# EAGLE library part MCP6H02 (library omcOpAmp)
MCP6H02 - 1.2 MHz, 16V Op Amps - Microchip Input Offset Voltage: ±0.7 mV (typical) Quiescent Current: 135 μA (typical) Common Mode Rejection Ratio: 100 dB (typical) Power Supply Rejection Ratio: 102 dB (typical) Rail-to-Rail Output Supply Voltage Range:: Single-Supply Operation: 3.5V to 16V Dual-Supply Operation: ±1.75V to ±8V Gain Bandwidth Product: 1.2 MHz (typical) Slew Rate: 0.8V/μs (typical) Unity Gain Stable Extended Temperature Range: -40°C to +125°C No Phase Reversal Datasheet: Microchip <http://ww1.microchip.com/downloads/en/devicedoc/22243d.pdf> Reichelt <https://cdn-reichelt.de/documents/datenblatt/A200/MCP6H01-2-4.pdf>
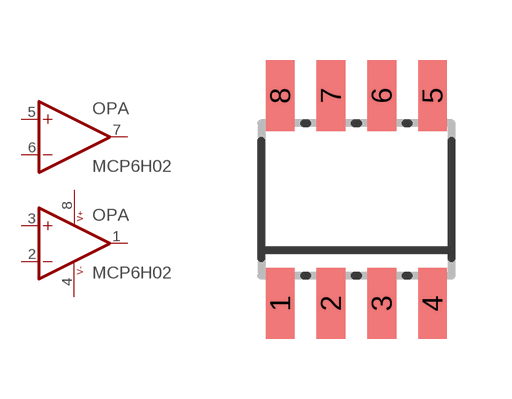
[diagram p2: symbol with the pads of SOIC08; footprint SOIC08]

Designator prefix OPA; gates G$1=OPV G$2=OPV G$3=PWR

## MCP6H02 (DIST#REICHELT#: MCP 6H02-E/SN; VALUE: MCP6H02; VENDOR#: Microchip,MCP6H02E)  [SOIC08]
1  G$1:OUT  out
2  G$1:-IN  in
3  G$1:+IN  in
4  G$3:V-  pwr
5  G$2:+IN  in
6  G$2:-IN  in
7  G$2:OUT  out
8  G$3:V+  pwr

## Footprint SOIC08 (pad centres in mm)
SOIC08 SMD 5mm×6.2mm Wikipedia <https://en.wikipedia.org/wiki/Small_Outline_Integrated_Circuit>
smd 0.72 x 1.78: 1 -1.905,-2.6; 2 -0.635,-2.6; 3 0.635,-2.6; 4 1.905,-2.6; 5 1.905,2.6; 6 0.635,2.6; 7 -0.635,2.6; 8 -1.905,2.6